# Altium footprint library Connector.PcbLib: 21 footprints (part 2 of 2)
Each footprint in its own frame and in the unit in brackets; x right, y up, seen from the top. Pads: shape width x height; smd on the part's side, far side on the other; paste and mask are expansions set on the pad; w line width, h text height; cw(c..) or ccw(c..) is an arc to the next point about the centre after c.
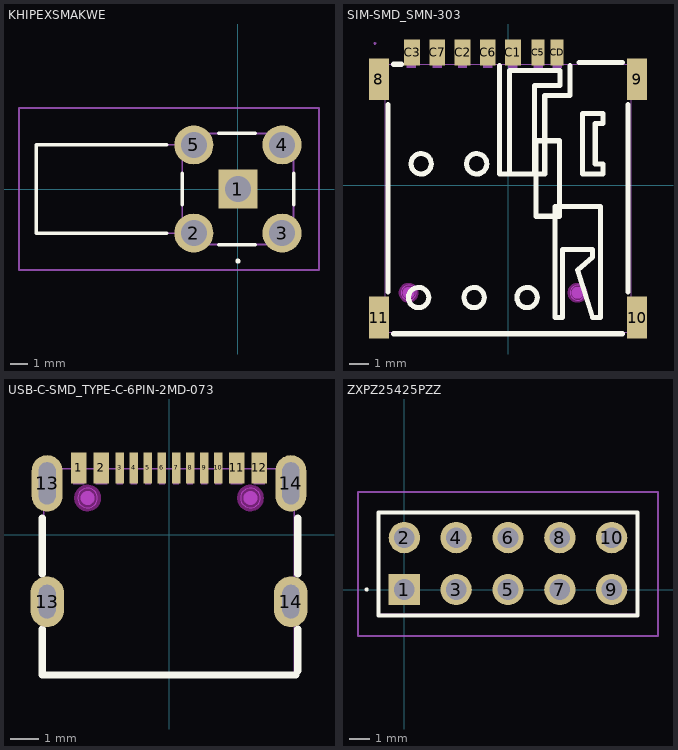
[diagram p1: the footprints below, top view; thin cyan lines are the x and y axes]

## KHIPEXSMAKWE [mm]
pads (5):
  rect 2.25x2.25 hole 1.5: 1(0,0)
  round 2.25 hole 1.5: 2(-2.54,-2.54) 3(2.54,-2.54) 4(2.54,2.54) 5(-2.54,2.54)
Top Overlay:
  lines w0.2: -4.1,-2.54 -11.6,-2.54 -11.6,2.54 -4.1,2.54 ; -3.2,-0.9 -3.2,0.9 ; -1.1,-3.2 1,-3.2 ; -1.1,3.2 1,3.2 ; 3.2,-0.9 3.2,0.9 ; 0,-4.2 ccw(c0,-4.15) 0,-4.1 ; 0,-4.2 cw(c0,-4.15) 0,-4.1 ; 0,-4.2 ccw(c0,-4.15) 0,-4.1
Mechanical 13:
  lines w0.1: -11.6,-2.54 -3.2,-2.54 -3.2,2.54 -11.6,2.54 -11.6,-2.54 ; -3.2,-3.2 3.2,-3.2 3.2,3.2 -3.2,3.2 -3.2,-3.2
Mechanical 15:
  lines w0.1: -12.6,-4.665 4.665,-4.665 4.665,4.665 -12.6,4.665 -12.6,-4.665
3D body "KH-IPEX-SMAKWE.stp": height 9.8, standoff -5, extent -11.6,-3.2 3.2,3.2

## PCBComponent_1 [mm]

## SIM-SMD_SMN-303 [mm]
pads (11):
  rect 1x2.1 smd: 8(-6.5,5.328) 9(6.5,5.328) 10(6.5,-6.672) 11(-6.5,-6.672)
  rect 0.8x1.3 smd: C1(0.25,6.672) C2(-2.29,6.672) C3(-4.83,6.672) C6(-1.02,6.672) C7(-3.56,6.672)
  rect 0.65x1.3 smd: C5(1.52,6.672) CD(2.47,6.672)
Top Overlay:
  circle w0.254: c-4.372,1.068 r0.512
  circle w0.254: c-1.578,1.068 r0.512
  circle w0.254: c-4.499,-5.663 r0.512
  circle w0.254: c-1.705,-5.663 r0.512
  circle w0.254: c0.962,-5.663 r0.512
  lines w0.254: -6.042,-5.391 -6.042,4.047 ; -5.769,-7.486 5.769,-7.486 ; -5.769,6.078 -5.365,6.078 ; -0.435,6.007 -0.435,0.56 1.851,0.56 1.851,4.497 3.121,4.497 ; 0.073,0.56 0.073,5.767 2.613,5.767 2.613,5.005 1.343,5.005 1.343,0.56 ; 3.569,6.164 5.769,6.164 ; 6.042,-5.391 6.042,4.047 ; 3.121,4.497 3.121,6.007 3.121,4.497 ; 1.4,-1.572 2.6,-1.572 2.6,2.228 1.4,2.228 1.4,-1.572 ; 2.359,-6.679 2.74,-6.679 2.74,-3.25 4.264,-3.25 4.264,-3.631 3.502,-4.266 4.264,-6.679 4.645,-6.679 4.645,-1.091 2.359,-1.091 2.359,-6.679 ; 3.756,0.56 3.756,3.608 4.772,3.608 4.772,3.1 4.391,3.1 4.391,1.068 4.772,1.068 4.772,0.56 3.756,0.56
Keep-Out Layer:
  board cut-out: -4.625,-5.422 -4.625,-5.348 -4.682,-5.21 -4.787,-5.104 -4.925,-5.047 -5.074,-5.047 -5.212,-5.104 -5.318,-5.21 -5.375,-5.348 -5.375,-5.422 -5.375,-5.497 -5.318,-5.635 -5.212,-5.74 -5.074,-5.797 -4.925,-5.797 -4.787,-5.74 -4.682,-5.635 -4.625,-5.497 -4.625,-5.422
  board cut-out: 3.875,-5.422 3.875,-5.348 3.818,-5.21 3.712,-5.104 3.575,-5.047 3.425,-5.047 3.288,-5.104 3.182,-5.21 3.125,-5.348 3.125,-5.422 3.125,-5.497 3.182,-5.635 3.288,-5.74 3.425,-5.797 3.575,-5.797 3.712,-5.74 3.818,-5.635 3.875,-5.497 3.875,-5.422
Mechanical 1:
  circle w0.025: c-5,-5.422 r0.375
  circle w0.025: c3.5,-5.422 r0.375
Mechanical 6:
  circle w0.3: c-5,-5.422 r0.15
  circle w0.3: c3.5,-5.422 r0.15
Mechanical 15:
  region: -6.64,7.128 -6.64,7.153 -6.675,7.188 -6.725,7.188 -6.76,7.153 -6.76,7.128 -6.76,7.103 -6.725,7.068 -6.675,7.068 -6.64,7.103 -6.64,7.128
  region: 2.245,7.128 2.695,7.128 2.695,5.9 2.245,5.9
  region: 1.295,7.128 1.745,7.128 1.745,5.9 1.295,5.9
  region: -3.785,7.128 -3.335,7.128 -3.335,5.9 -3.785,5.9
  region: -5.1,7.128 -4.65,7.128 -4.65,5.9 -5.1,5.9
  region: -6.7,6.078 -6.15,6.078 -6.15,4.578 -6.7,4.578
  region: -6.7,-5.922 -6.15,-5.922 -6.15,-7.422 -6.7,-7.422
  region: 6.15,-5.922 6.7,-5.922 6.7,-7.422 6.15,-7.422
  region: 6.15,6.078 6.7,6.078 6.7,4.578 6.15,4.578
  region: -2.515,7.128 -2.065,7.128 -2.065,5.9 -2.515,5.9
  region: -1.245,7.128 -0.795,7.128 -0.795,5.9 -1.245,5.9
  region: 0.025,7.128 0.475,7.128 0.475,5.9 0.025,5.9
  lines w0.051: -6.206,-7.422 -6.206,6.078 6.206,6.078 6.206,-7.422 -6.206,-7.422
Multi-Layer keep-out:
  circle w0.254: c-5,-5.422 r0.375
  circle w0.254: c3.5,-5.422 r0.375

## USB-C-SMD_TYPE-C-6PIN-2MD-073 [mm]
pads (16):
  rect 0.55x1.1 smd: 1(-3.2,2.375) 2(-2.4,2.375) 11(2.4,2.375) 12(3.2,2.375)
  rect 0.3x1.1 smd: 3(-1.75,2.375) 4(-1.25,2.375) 5(-0.75,2.375) 6(-0.25,2.375) 7(0.25,2.375) 8(0.75,2.375) 9(1.25,2.375) 10(1.75,2.375)
  oval 1.1x2 hole 0.6 slot 1.5 at 90 deg: 13(-4.325,1.825) 14(4.325,1.825)
  oval 1.2x1.8 hole 0.6 slot 1.2 at 90 deg: 13(-4.325,-2.375) 14(4.325,-2.375)
Top Overlay:
  lines w0.254: -4.5,-3.356 -4.5,-4.975 4.5,-4.975 ; -4.5,-1.394 -4.5,0.594 ; 4.572,-4.826 4.572,-3.353 ; 4.572,-1.397 4.572,0.597
Top Paste:
  drawing of 16 lines, arcs and shapes, not listed
Keep-Out Layer:
  board cut-out: -2.54,1.305 -2.541,1.374 -2.595,1.5 -2.694,1.597 -2.821,1.649 -2.959,1.649 -3.086,1.597 -3.184,1.5 -3.239,1.374 -3.24,1.305 -3.239,1.236 -3.184,1.11 -3.086,1.013 -2.959,0.961 -2.821,0.961 -2.694,1.013 -2.595,1.11 -2.541,1.236 -2.54,1.305
  board cut-out: 3.24,1.305 3.239,1.374 3.185,1.5 3.086,1.597 2.959,1.649 2.821,1.649 2.694,1.597 2.596,1.5 2.541,1.374 2.54,1.305 2.541,1.236 2.596,1.11 2.694,1.013 2.821,0.961 2.959,0.961 3.086,1.013 3.185,1.11 3.239,1.236 3.24,1.305
Mechanical 1:
  circle w0.025: c-2.89,1.305 r0.35
  circle w0.025: c2.89,1.305 r0.35
Mechanical 6:
  circle w0.25: c-2.89,1.305 r0.125
  circle w0.25: c2.89,1.305 r0.125
Mechanical 15:
  region: -4.39,2.649 -4.39,2.674 -4.425,2.709 -4.475,2.709 -4.51,2.674 -4.51,2.649 -4.51,2.624 -4.475,2.589 -4.425,2.589 -4.39,2.624 -4.39,2.649
  region: -1.85,2.649 -1.65,2.649 -1.65,1.799 -1.85,1.799
  region: -0.85,2.649 -0.65,2.649 -0.65,1.799 -0.85,1.799
  region: -1.35,2.649 -1.15,2.649 -1.15,1.799 -1.35,1.799
  region: -0.35,2.649 -0.15,2.649 -0.15,1.799 -0.35,1.799
  region: 0.15,2.649 0.35,2.649 0.35,1.799 0.15,1.799
  region: 0.65,2.649 0.85,2.649 0.85,1.799 0.65,1.799
  region: 1.15,2.649 1.35,2.649 1.35,1.799 1.15,1.799
  region: 1.65,2.649 1.85,2.649 1.85,1.799 1.65,1.799
  region: -3.4,2.649 -3,2.649 -3,1.799 -3.4,1.799
  region: -2.6,2.649 -2.2,2.649 -2.2,1.799 -2.6,1.799
  region: 2.2,2.649 2.6,2.649 2.6,1.799 2.2,1.799
  region: 3,2.649 3.4,2.649 3.4,1.799 3,1.799
  region: -4.45,2.349 -4.2,2.349 -4.2,1.249 -4.45,1.249
  region: 4.2,2.349 4.45,2.349 4.45,1.249 4.2,1.249
  region: -4.45,-2.025 -4.2,-2.025 -4.2,-2.725 -4.45,-2.725
  region: 4.2,-2.025 4.45,-2.025 4.45,-2.725 4.2,-2.725
  lines w0.051: -4.45,-5.001 -4.45,2.349 4.45,2.349 4.45,-5.001 -4.45,-5.001
Multi-Layer keep-out:
  circle w0.254: c-2.89,1.305 r0.35
  circle w0.254: c2.89,1.305 r0.35

## ZXPZ25425PZZ [mm]
pads (10):
  rect 1.53x1.53 hole 1.02: 1(0,0)
  round 1.53 hole 1.02: 2(0,2.54) 3(2.54,0) 4(2.54,2.54) 5(5.08,0) 6(5.08,2.54) 7(7.62,0) 8(7.62,2.54) 9(10.16,0) 10(10.16,2.54)
Top Overlay:
  lines w0.1: -1.9,0 ccw(c-1.85,0) -1.8,0 ccw(c-1.85,0) -1.9,0
  lines w0.2: -1.27,-1.27 -1.27,3.77 11.43,3.77 11.43,-1.27 -1.27,-1.27
Mechanical 13:
  lines w0.1: -1.27,-1.23 -1.27,3.77 11.43,3.77 11.43,-1.23 -1.27,-1.23
Mechanical 15:
  lines w0.1: -2.27,-2.27 -2.27,4.77 12.43,4.77 12.43,-2.27 -2.27,-2.27
3D body "ZX-PZ2.54-2-5PZZ.stp": height 8.8, standoff -5, extent -1.27,-1.23 11.43,3.77